# EAGLE library part WH-BMS-LV (library FSAE Electric)
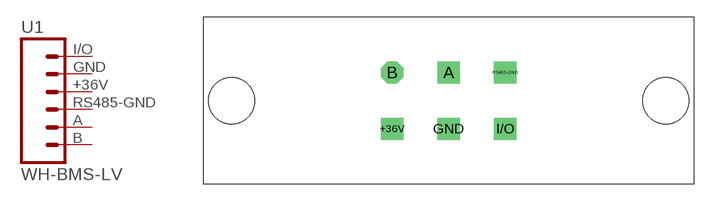
[diagram p100: symbol with the pads of WH-BMS-LV; footprint WH-BMS-LV]

Designator prefix U1

## WH-BMS-LV  [WH-BMS-LV]
+36V  4  pas
A  2  pas
B  1  pas
GND  5  pas
I/O  6  pas
RS485-GND  3  pas

## Footprint WH-BMS-LV (pad centres in mm)
Molex MX150L 2x3 Right-angle PCB Header View Datasheet <http://www.molex.com/webdocs/datasheets/pdf/en-us/0194270018_PCB_HEADERS.pdf>
drill 1.524 square: +36V -5.842,-2.921; A 0,2.921; GND 0,-2.921; I/O 5.842,-2.921; RS485-GND 5.842,2.921
drill 1.524 octagon: B -5.842,2.921
hole 4.775 at -22.479,0
hole 4.775 at 22.479,0